# Altium footprint library GL827L.PcbLib: 1 footprints
Each footprint in its own frame and in the unit in brackets; x right, y up, seen from the top. Pads: shape width x height; smd on the part's side, far side on the other; paste and mask are expansions set on the pad; w line width, h text height; cw(c..) or ccw(c..) is an arc to the next point about the centre after c.
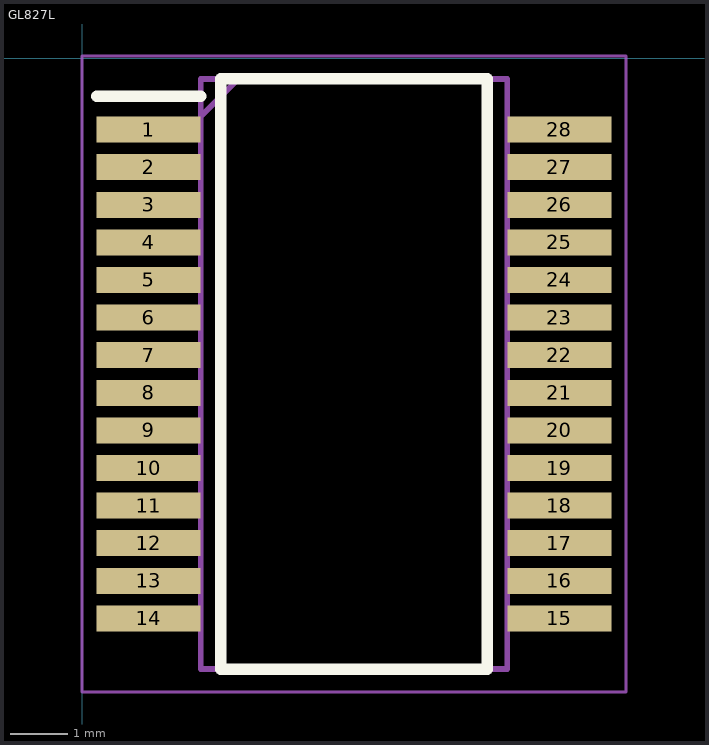
[diagram p0: the footprint, top view; thin cyan lines are the x and y axes]

## GL827L [mm] "QFN, 24-Leads, Body 4,00x4,00mm, Pitch 0,50mm, Thermal Pad 2,00x2,00mm, IPC Medium Density"
height 0.75
pads (28):
  rect 1.8x0.45 smd: 1(1.149,-1.236) 2(1.149,-1.886) 3(1.149,-2.536) 4(1.149,-3.186) 5(1.149,-3.836) 6(1.149,-4.486) 7(1.149,-5.136) 8(1.149,-5.786) 9(1.149,-6.436) 10(1.149,-7.086) 11(1.149,-7.736) 12(1.149,-8.386) 13(1.149,-9.036) 14(1.149,-9.686) 15(8.249,-9.686) 16(8.249,-9.036) 17(8.249,-8.386) 18(8.249,-7.736) 19(8.249,-7.086) 20(8.249,-6.436) 21(8.249,-5.786) 22(8.249,-5.136) 23(8.249,-4.486) 24(8.249,-3.836) 25(8.249,-3.186) 26(8.249,-2.536) 27(8.249,-1.886) 28(8.249,-1.236)
Top Overlay:
  lines w0.2: 0.249,-0.661 2.049,-0.661 ; 2.399,-10.561 2.399,-0.361 6.999,-0.361 6.999,-10.561 2.399,-10.561
Mechanical 13:
  lines w0.1: 2.049,-1.011 2.699,-0.361 ; 2.049,-10.561 2.049,-0.361 7.349,-0.361 7.349,-10.561 2.049,-10.561
Mechanical 15:
  lines w0.05: -0.001,-10.961 -0.001,0.039 9.399,0.039 9.399,-10.961 -0.001,-10.961
3D body "FT232RL-TUBE.stp": height 2, standoff 0, extent 0.799,-10.561 8.599,-0.361